# Altium footprint library INFINITY.Inductor.PcbLib: 3 footprints
Each footprint in its own frame and in the unit in brackets; x right, y up, seen from the top. Pads: shape width x height; smd on the part's side, far side on the other; paste and mask are expansions set on the pad; w line width, h text height; cw(c..) or ccw(c..) is an arc to the next point about the centre after c.
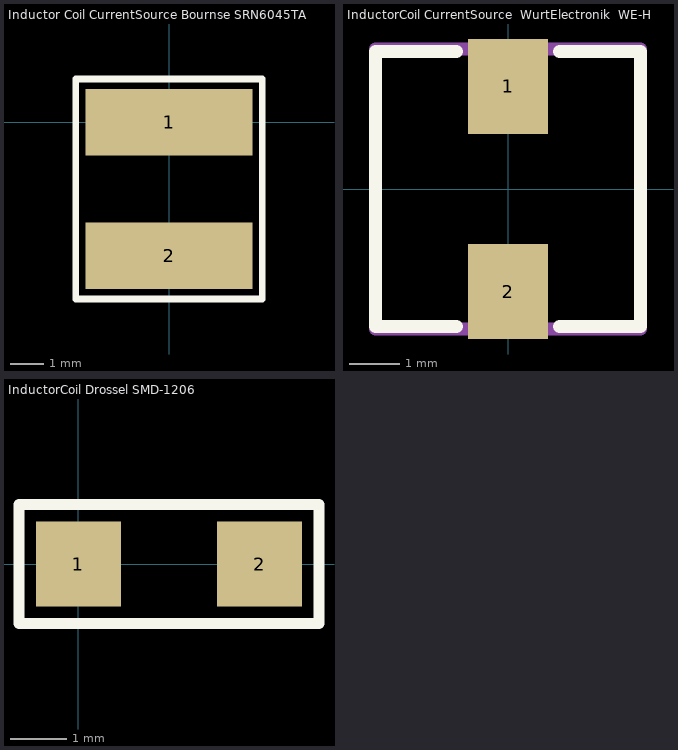
[diagram p0: the footprints below, top view; thin cyan lines are the x and y axes]

## Inductor Coil CurrentSource Bournse SRN6045TA [mm]
height 4.2
pads (2):
  rect 5x2 smd: 1(0,0) 2(0,-4)
Top Overlay:
  lines w0.2: -2.8,-5.3 -2.8,1.3 2.8,1.3 2.8,-5.3 -2.8,-5.3
3D body "Inductor Coil CurrentSource LQH4C 1812.STEP": height 2.6, standoff 0, extent -1.6,-4.3 1.6,0.3

## InductorCoil CurrentSource  WurtElectronik  WE-HCI_5040_WE-PERM 2 size_5040 [mm] "SMD Flat Wire High Current Inductor, size 5040"
height 4
pads (2):
  rect 1.6x1.9 smd: 1(0,2.05) 2(0,-2.05)
Top Overlay:
  lines w0.254: -1.03,-2.75 -2.65,-2.75 -2.65,2.75 -1.03,2.75 ; 1.03,-2.75 2.65,-2.75 2.65,2.75 1.03,2.75
Mechanica 13:
  lines w0.254: -2.65,-2.8 -2.65,2.8 2.65,2.8 2.65,-2.8 -2.65,-2.8
3D body "744316x.stp": height 4, standoff 0.05, extent -2.65,-2.79 2.65,2.79

## InductorCoil Drossel SMD-1206 [mm]
pads (2):
  rect 1.5x1.5 smd: 1(0,0) 2(3.2,0)
Top Overlay:
  lines w0.2: -1.05,-1.05 -1.05,1.05 4.25,1.05 4.25,-1.05 -1.05,-1.05
3D body "Inductor Coil Drossel SMD-1206.STEP": height 0.44, standoff -0.11, extent 0.01,-0.825 3.21,0.775